# Altium footprint library Tank.PcbLib: 288 footprints (part 11 of 18)
Each footprint in its own frame and in the unit in brackets; x right, y up, seen from the top. Pads: shape width x height; smd on the part's side, far side on the other; paste and mask are expansions set on the pad; w line width, h text height; cw(c..) or ccw(c..) is an arc to the next point about the centre after c.
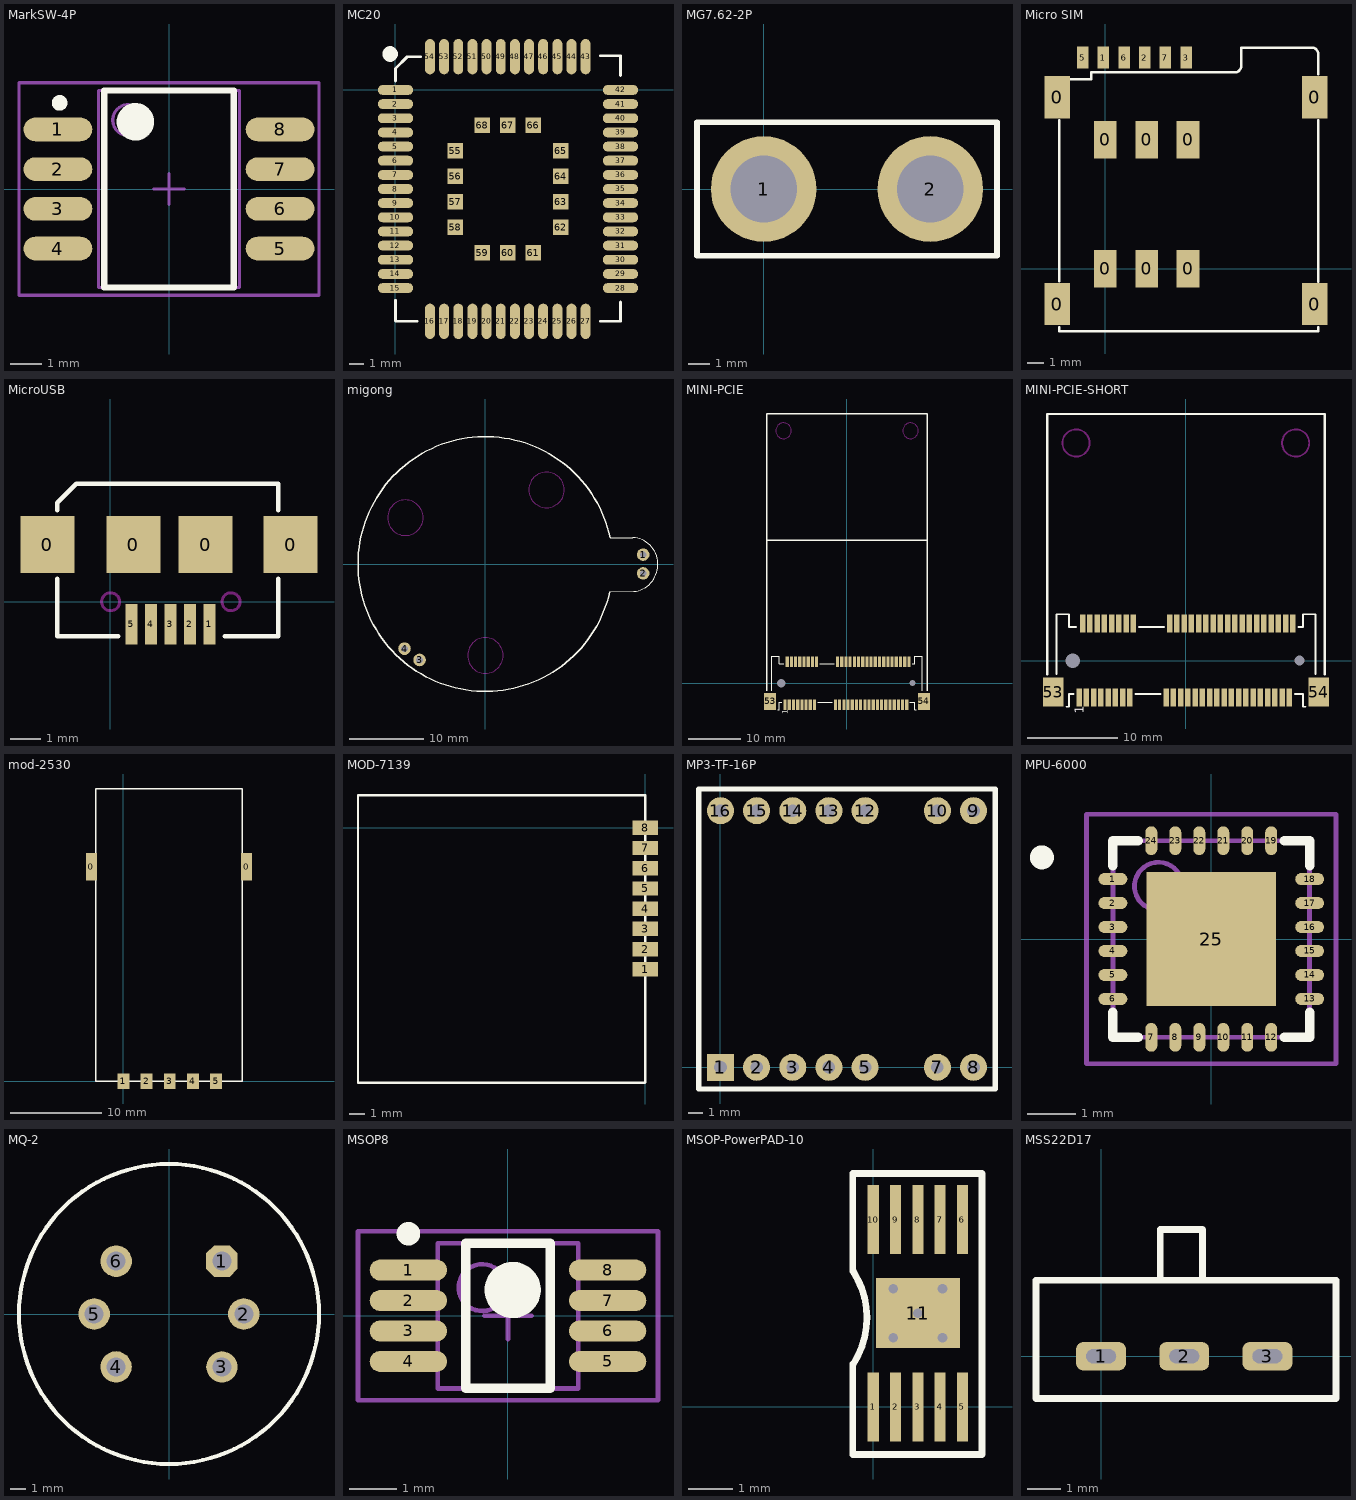
[diagram p10: the footprints below, top view; thin cyan lines are the x and y axes]

## MarkSW-4P [mm] "SOP, 8-Leads, Body 6.3x4.5mm (max), Pitch 1.27mm, IPC Medium Density"
height 2.65
pads (8):
  oval 2.2x0.76 smd: 1(-3.556,1.905) 2(-3.556,0.635) 3(-3.556,-0.635) 4(-3.556,-1.905) 5(3.556,-1.905) 6(3.556,-0.635) 7(3.556,0.635) 8(3.556,1.905)
Top Overlay:
  circle w0.6: c-1.075,2.15 r0.3
  circle w0.25: c-3.5,2.755 r0.125
  lines w0.2: -2.075,-3.15 2.075,-3.15 2.075,3.15 -2.075,3.15 -2.075,-3.15
Mechanical 13:
  circle w0.1: c-1.3,2.205 r0.5
  lines w0.1: -2.25,-3.155 2.25,-3.155 2.25,3.155 -2.25,3.155 -2.25,-3.155
Mechanical 15:
  lines w0.1: -0.5,0 0.5,0 ; 0,-0.5 0,0.5 ; -4.8,-3.4 4.8,-3.4 4.8,3.4 -4.8,3.4 -4.8,-3.4
3D body: height 2.65, standoff 0.1, extent -2.25,-3.155 2.25,3.155

## MC20 [mm]
pads (68):
  oval 2.5x0.7 smd: 1(0,0) 2(0,-1) 3(0,-2) 4(0,-3) 5(0,-4) 6(0,-5) 7(0,-6) 8(0,-7) 9(0,-8) 10(0,-9) 11(0,-10) 12(0,-11) 13(0,-12) 14(0,-13) 15(0,-14) 28(15.9,-14) 29(15.9,-13) 30(15.9,-12) 31(15.9,-11) 32(15.9,-10) 33(15.9,-9) 34(15.9,-8) 35(15.9,-7) 36(15.9,-6) 37(15.9,-5) 38(15.9,-4) 39(15.9,-3) 40(15.9,-2) 41(15.9,-1) 42(15.9,0)
  oval 0.7x2.5 smd: 16(2.438,-16.35) 17(3.437,-16.35) 18(4.437,-16.35) 19(5.437,-16.35) 20(6.438,-16.35) 21(7.438,-16.35) 22(8.437,-16.35) 23(9.437,-16.35) 24(10.438,-16.35) 25(11.438,-16.35) 26(12.438,-16.35) 27(13.437,-16.35) 43(13.437,2.35) 44(12.438,2.35) 45(11.438,2.35) 46(10.438,2.35) 47(9.437,2.35) 48(8.437,2.35) 49(7.438,2.35) 50(6.438,2.35) 51(5.437,2.35) 52(4.437,2.35) 53(3.437,2.35) 54(2.438,2.35)
  rect 1.1x1.1 smd: 55(4.213,-4.3) 56(4.213,-6.1) 57(4.213,-7.9) 58(4.213,-9.7) 59(6.138,-11.5) 60(7.938,-11.5) 61(9.737,-11.5) 62(11.662,-9.7) 63(11.662,-7.9) 64(11.662,-6.1) 65(11.662,-4.3) 66(9.737,-2.5) 67(7.938,-2.5) 68(6.138,-2.5)
Top Overlay:
  circle w0.6: c-0.381,2.54 r0.254
  lines w0.2: 0,-14.859 0,-16.317 0.033,-16.35 1.524,-16.35 ; 0,0.635 0,1.524 0.826,2.35 1.778,2.35 ; 14.478,-16.35 15.9,-16.35 15.9,-14.986 ; 14.478,2.413 15.9,2.413 15.9,1.016

## MG7.62-2P [mil]
pads (2):
  round 190 hole 120: 1(0,0) 2(300,0)
Top Overlay:
  lines w10: -120,-120 420,-120 420,120 -120,120 -120,-120

## Micro SIM [mm]
pads (16):
  rect 1.55x2.6 smd: 0(-2.95,-2.15) 0(-2.95,10.53) 0(12.85,-2.15) 0(12.85,10.53)
  rect 1.4x2.3 smd: 0(0,0) 0(0,7.92) 0(2.54,0) 0(2.54,7.92) 0(5.08,0) 0(5.08,7.92)
  rect 0.7x1.35 smd: 1(-0.12,12.955) 2(2.42,12.955) 3(4.96,12.955) 5(-1.39,12.955) 6(1.15,12.955) 7(3.69,12.955)
Top Overlay:
  lines w0.152: -2.823,-3.567 -2.823,-3.821 13.052,-3.821 13.052,-3.567 ; -2.823,-0.748 -2.823,9.133 ; -2.112,11.648 -0.867,11.648 -0.867,12.054 7.919,12.054 ccw(c7.919,12.488) 8.226,12.181 ccw(c7.919,12.488) 8.35,12.435 ; 8.353,12.435 8.353,13.578 12.671,13.578 cw(c12.671,13.197) 13.052,13.197 13.052,11.927 ; 13.052,-0.773 13.052,9.133

## MicroUSB [mm]
pads (9):
  rect 1.8x1.9 smd: 0(-2.098,1.905) 0(0.762,1.905) 0(3.175,1.905) 0(6.002,1.905)
  rect 0.4x1.35 smd: 1(3.302,-0.745) 2(2.652,-0.745) 3(2.002,-0.745) 4(1.352,-0.745) 5(0.702,-0.745)
Top Overlay:
  lines w0.152: -1.778,0.762 -1.778,-1.143 0.254,-1.143 ; -1.778,3.048 -1.778,3.302 -1.143,3.937 5.588,3.937 5.588,3.048 ; 3.81,-1.143 5.588,-1.143 5.588,0.762
Keep-Out Layer:
  circle w0.1: c4.019,0 r0.3
  circle w0.1: c0.006,0 r0.3

## migong [mm]
pads (4):
  round 1.7 hole 0.9: 1(21.3,1.27) 2(21.3,-1.27) 3(-8.89,-12.954) 4(-10.922,-11.43)
Top Overlay:
  lines w0.15: 16.792,-3.724 20.011,-3.711 ; 16.827,3.563 19.884,3.572 cw(c19.649,-0.07) 20.011,-3.702
  lines w0.2: 16.792,-3.724 cw(c0,0) 16.827,3.563
Keep-Out Layer:
  circle w0.15: c-10.8,6.25 r2.4
  circle w0.15: c8.25,10 r2.4
  circle w0.15: c0,-12.35 r2.4

## MINI-PCIE [mm]
pads (56):
  rect 0.6x2 smd: 1(-11.8,-4.1) 2(-11.4,4.1) 3(-11,-4.1) 4(-10.6,4.1) 5(-10.2,-4.1) 6(-9.8,4.1) 7(-9.4,-4.1) 8(-9,4.1) 9(-8.6,-4.1) 10(-8.2,4.1) 11(-7.8,-4.1) 12(-7.4,4.1) 13(-7,-4.1) 14(-6.6,4.1) 15(-6.2,-4.1) 16(-5.8,4.1) 17(-2.2,-4.1) 18(-1.8,4.1) 19(-1.4,-4.1) 20(-1,4.1) 21(-0.6,-4.1) 22(-0.2,4.1) 23(0.2,-4.1) 24(0.6,4.1) 25(1,-4.1) 26(1.4,4.1) 27(1.8,-4.1) 28(2.2,4.1) 29(2.6,-4.1) 30(3,4.1) 31(3.4,-4.1) 32(3.8,4.1) 33(4.2,-4.1) 34(4.6,4.1) 35(5,-4.1) 36(5.4,4.1) 37(5.8,-4.1) 38(6.2,4.1) 39(6.6,-4.1) 40(7,4.1) 41(7.4,-4.1) 42(7.8,4.1) 43(8.2,-4.1) 44(8.6,4.1) 45(9,-4.1) 46(9.4,4.1) 47(9.8,-4.1) 48(10.2,4.1) 49(10.6,-4.1) 50(11,4.1) 51(11.4,-4.1) 52(11.8,4.1)
  rect 2.3x3.2 smd: 53(-14.65,-3.5) 54(14.65,-3.5)
  rrect70% 0x0 hole 1.6: 55(-12.5,0)
  rrect70% 0x0 hole 1.1: 56(12.5,0)
Top Overlay:
  lines w0.2: -14.3,-1.5 -14.3,5.1 -12.9,5.1 -12.9,3.7 -12.1,3.7 ; -13.2,-5.1 -12.9,-5.1 -12.9,-3.7 -12.4,-3.7 ; -5.6,-3.7 -2.8,-3.7 ; -5.2,3.7 -2.4,3.7 ; 12,-3.7 12.9,-3.7 12.9,-5.1 13.2,-5.1 ; 12.4,3.7 12.9,3.7 12.9,5.1 14.3,5.1 14.3,-1.5
  lines w0.254: -15.3,-1.5 -15.3,51.3 -14.8,51.3 15.3,51.3 15.3,-1.5 ; -15.3,27.2 15.3,27.2
  text "1" at -11.3,-5.9 h1.02
Keep-Out Layer:
  circle w0.203: c-12.1,48.1 r1.5
  circle w0.203: c12.1,48.1 r1.5

## MINI-PCIE-SHORT [mm]
pads (56):
  rect 0.6x2 smd: 1(-11.8,-4.1) 2(-11.4,4.1) 3(-11,-4.1) 4(-10.6,4.1) 5(-10.2,-4.1) 6(-9.8,4.1) 7(-9.4,-4.1) 8(-9,4.1) 9(-8.6,-4.1) 10(-8.2,4.1) 11(-7.8,-4.1) 12(-7.4,4.1) 13(-7,-4.1) 14(-6.6,4.1) 15(-6.2,-4.1) 16(-5.8,4.1) 17(-2.2,-4.1) 18(-1.8,4.1) 19(-1.4,-4.1) 20(-1,4.1) 21(-0.6,-4.1) 22(-0.2,4.1) 23(0.2,-4.1) 24(0.6,4.1) 25(1,-4.1) 26(1.4,4.1) 27(1.8,-4.1) 28(2.2,4.1) 29(2.6,-4.1) 30(3,4.1) 31(3.4,-4.1) 32(3.8,4.1) 33(4.2,-4.1) 34(4.6,4.1) 35(5,-4.1) 36(5.4,4.1) 37(5.8,-4.1) 38(6.2,4.1) 39(6.6,-4.1) 40(7,4.1) 41(7.4,-4.1) 42(7.8,4.1) 43(8.2,-4.1) 44(8.6,4.1) 45(9,-4.1) 46(9.4,4.1) 47(9.8,-4.1) 48(10.2,4.1) 49(10.6,-4.1) 50(11,4.1) 51(11.4,-4.1) 52(11.8,4.1)
  rect 2.3x3.2 smd: 53(-14.65,-3.5) 54(14.65,-3.5)
  rrect70% 0x0 hole 1.6: 55(-12.5,0)
  rrect70% 0x0 hole 1.1: 56(12.5,0)
Top Overlay:
  lines w0.2: -14.3,-1.5 -14.3,5.1 -12.9,5.1 -12.9,3.7 -12.1,3.7 ; -13.2,-5.1 -12.9,-5.1 -12.9,-3.7 -12.4,-3.7 ; -5.6,-3.7 -2.8,-3.7 ; -5.2,3.7 -2.4,3.7 ; 12,-3.7 12.9,-3.7 12.9,-5.1 13.2,-5.1 ; 12.4,3.7 12.9,3.7 12.9,5.1 14.3,5.1 14.3,-1.5
  lines w0.254: -15.3,-1.5 -15.3,27.178 ; -15.3,27.2 15.291,27.2 15.3,27.191 15.3,-1.5
  text "1" at -11.3,-5.9 h1.02
Keep-Out Layer:
  circle w0.203: c-12.132,24.003 r1.5
  circle w0.203: c12.1,24 r1.5

## mod-2530 [mm]
pads (7):
  rect 1.2x3 smd: 0(-3.5,23.5) 0(13.5,23.5)
  rect 1.3x1.7 smd: 1(0,0) 2(2.54,0) 3(5.08,0) 4(7.62,0) 5(10.16,0)
Top Overlay:
  lines w0.152: -3,0 -3,32 13,32 13,0 -3,0

## MOD-7139 [mm]
pads (8):
  rect 1.6x0.9 smd: 1(0,-8.89) 2(0,-7.62) 3(0,-6.35) 4(0,-5.08) 5(0,-3.81) 6(0,-2.54) 7(0,-1.27) 8(0,0)
Top Overlay:
  lines w0.152: -18.034,1.998 -18.034,-16.002 -0.034,-16.002 ; -18.034,2.032 -0.034,2.032 ; 0,-15.968 0,2.032

## MP3-TF-16P [mm]
pads (16):
  rect 1.9x1.9 hole 0.88: 1(0,0)
  round 1.9 hole 0.88: 2(2.54,0) 3(5.08,0) 4(7.62,0) 5(10.16,0) 7(15.24,0) 8(17.78,0) 9(17.78,18.034) 10(15.24,18.034) 12(10.16,18.034) 13(7.62,18.034) 14(5.08,18.034) 15(2.54,18.034) 16(0,18.034)
  round 0 all layers, no hole: 6(12.7,0) 11(12.7,18.034)
Top Overlay:
  lines w0.381: -1.524,-1.524 -1.524,19.558 19.304,19.558 19.304,-1.524 -1.524,-1.524

## MPU-6000 [mm] "QFN, 24-Leads, Body 4.1x4.1mm (max), Pitch 0.50mm, IPC Medium Density"
height 0.95
pads (25):
  oval 0.6x0.25 smd: 1(-2.05,1.25) 2(-2.05,0.75) 3(-2.05,0.25) 4(-2.05,-0.25) 5(-2.05,-0.75) 6(-2.05,-1.25) 13(2.05,-1.25) 14(2.05,-0.75) 15(2.05,-0.25) 16(2.05,0.25) 17(2.05,0.75) 18(2.05,1.25)
  oval 0.25x0.6 smd: 7(-1.25,-2.05) 8(-0.75,-2.05) 9(-0.25,-2.05) 10(0.25,-2.05) 11(0.75,-2.05) 12(1.25,-2.05) 19(1.25,2.05) 20(0.75,2.05) 21(0.25,2.05) 22(-0.25,2.05) 23(-0.75,2.05) 24(-1.25,2.05)
  rect 2.7x2.8 smd: 25(0,0)
Top Overlay:
  circle w0.25: c-3.529,1.702 r0.125
  lines w0.2: -2.05,-1.525 -2.05,-2.05 -1.525,-2.05 ; -2.05,1.525 -2.05,2.05 -1.525,2.05 ; 1.525,-2.05 2.05,-2.05 2.05,-1.525 ; 1.525,2.05 2.05,2.05 2.05,1.525
Mechanical 13:
  circle w0.1: c-1.1,1.1 r0.5
  lines w0.1: -2.05,-2.05 2.05,-2.05 2.05,2.05 -2.05,2.05 -2.05,-2.05
Mechanical 15:
  lines w0.1: -0.5,0 0.5,0 ; 0,-0.5 0,0.5 ; -2.6,-2.6 2.6,-2.6 2.6,2.6 -2.6,2.6 -2.6,-2.6
3D body: height 0.95, standoff 0, extent -2.05,-2.05 2.05,2.05

## MQ-2 [mm]
pads (6):
  oct 2x2 hole 1.2: 1(3.357,3.357)
  round 2 hole 1.2: 2(4.75,0) 3(3.362,-3.362) 4(-3.36,-3.36) 5(-4.75,0) 6(-3.355,3.355)
Top Overlay:
  circle w0.254: c0,0 r9.52

## MSOP8 [mm] "SOP, 8-Leads, Body 3.1x3.0mm (max), Pitch 0.65mm, IPC Medium Density"
height 2.65
pads (8):
  oval 1.65x0.45 smd: 1(-2.125,0.975) 2(-2.125,0.325) 3(-2.125,-0.325) 4(-2.125,-0.975) 5(2.125,-0.975) 6(2.125,-0.325) 7(2.125,0.325) 8(2.125,0.975)
Top Overlay:
  circle w0.25: c-2.125,1.75 r0.125
  circle w0.6: c0.1,0.55 r0.3
  lines w0.2: -0.9,-1.55 -0.9,1.55 0.9,1.55 0.9,-1.55 -0.9,-1.55
Mechanical 13:
  circle w0.1: c-0.55,0.6 r0.5
  lines w0.1: -1.5,-1.55 -1.5,1.55 1.5,1.55 1.5,-1.55 -1.5,-1.55
Mechanical 15:
  lines w0.1: -0.5,0 0.5,0 ; 0,-0.5 0,0.5 ; -3.2,-1.8 -3.2,1.8 3.2,1.8 3.2,-1.8 -3.2,-1.8
3D body: height 2.65, standoff 0.1, extent -1.5,-1.55 1.5,1.55

## MSOP-PowerPAD-10 [mm]
pads (11):
  rect 0.25x1.55 smd: 1(0,0) 2(0.5,0) 3(1,0) 4(1.5,0) 5(2,0) 6(2,4.2) 7(1.5,4.2) 8(1,4.2) 9(0.5,4.2) 10(0,4.2)
  rect 1.88x1.57 smd: 11(1,2.1)
via 1.55,2.65 diameter 0.25 hole 0.22
via 1.55,1.55 diameter 0.25 hole 0.22
via 0.45,1.55 diameter 0.25 hole 0.22
via 0.45,2.65 diameter 0.25 hole 0.22
via 1,2.1 diameter 0.25 hole 0.22
Top Overlay:
  lines w0.15: -0.457,0.96 -0.457,-1.067 2.438,-1.067 2.438,5.232 -0.457,5.232 -0.457,3.048 cw(c-2.047,1.998) -0.45,0.96

## MSS22D17 [mm]
pads (3):
  rrect50% 1.5x0.85 hole 0.43 slot 0.9 at 0 deg: 1(0,0) 2(2.5,0) 3(5,0)
Top Overlay:
  lines w0.2: 1.778,2.286 1.778,3.81 3.048,3.81 3.048,2.286 ; -1.956,-1.27 7.061,-1.27 7.061,2.286 -1.956,2.286 -1.956,-1.27